# Altium schematic symbol library 模拟集成电路.SCHLIB: 4 symbols
Pins are listed as number, name and electrical type; pins without a type are passive.

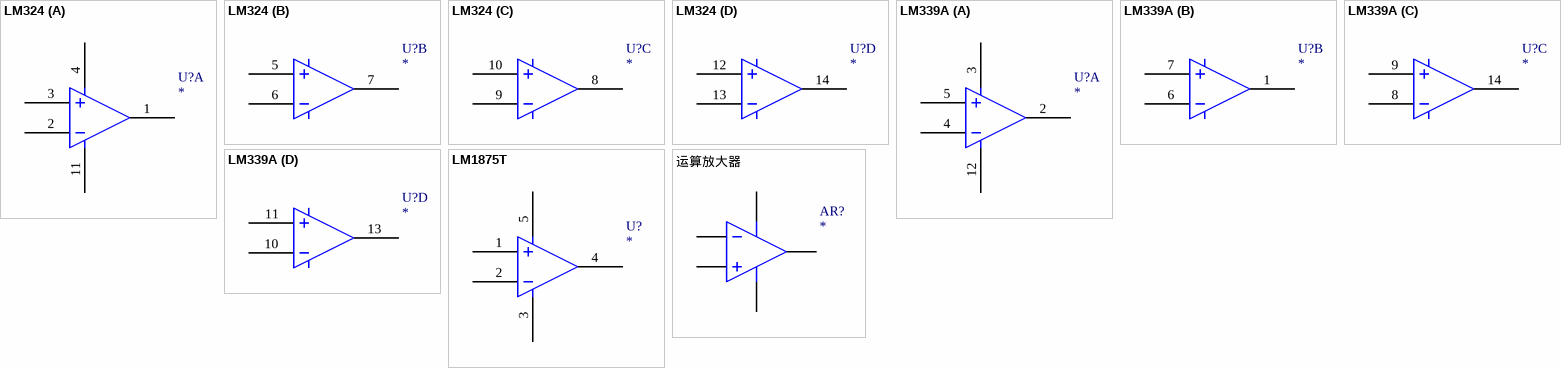
[diagram p0: symbols LM324 to 运算放大器]

## LM324
designator U?
footprint DIP-14
part A pins: 1, 2, 3, 4, 11
part B pins: 5, 6, 7
part C pins: 8, 9, 10
part D pins: 12, 13, 14

## LM339A
designator U?
footprint DIP-14
part A pins: 2, 3, 4, 5, 12
part B pins: 1, 6, 7
part C pins: 8, 9, 14
part D pins: 10, 11, 13

## LM1875T
designator U?
footprint TO-220
footprint TO-220-5
pins: 1, 2, 3, 4, 5

## 运算放大器
designator AR?
Operational Amplifier; U?: *
footprint DIP-8N
pins: 1 OUT, 2 IN-, 3 IN+, 4 V-, 8 V+